# Altium footprint library SOD-323.PcbLib: 1 footprints
Each footprint in its own frame and in the unit in brackets; x right, y up, seen from the top. Pads: shape width x height; smd on the part's side, far side on the other; paste and mask are expansions set on the pad; w line width, h text height; cw(c..) or ccw(c..) is an arc to the next point about the centre after c.
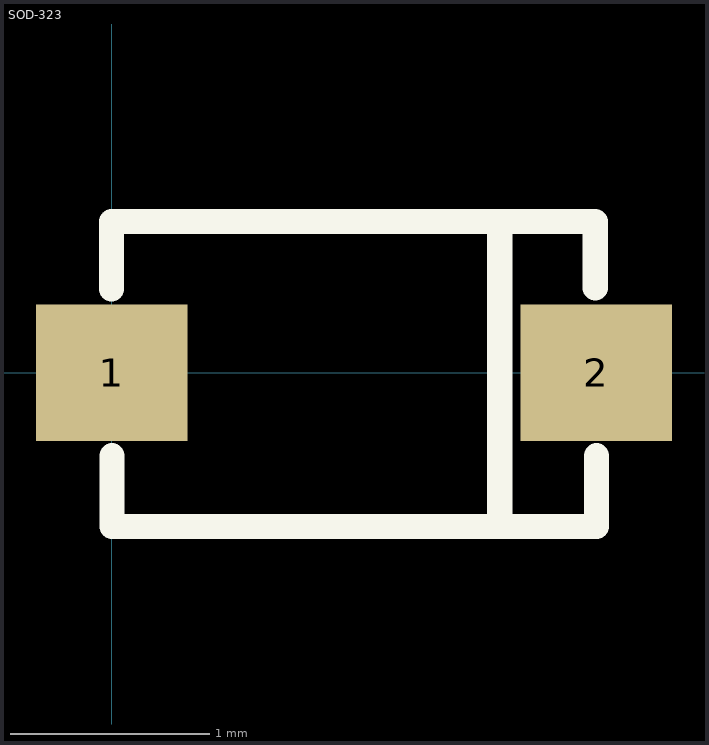
[diagram p0: the footprint, top view; thin cyan lines are the x and y axes]

## SOD-323 [mil]
height 45
pads (2):
  rect 30x27 smd: 1(0,0) 2(96,0)
TopOverlay:
  lines w5: -0.01,16.56 -0.01,29.87 0.03,29.91 95.79,29.91 95.79,16.78 ; 0.11,-16.46 0.11,-30.44 96.01,-30.44 96.01,-16.46 ; 76.87,-30.44 76.87,29.91
3D body: height 43.5, standoff 0, extent -3.59,-26.66 98.77,26.49